# EAGLE library part 503480-1600 (library con-Molex-503480)
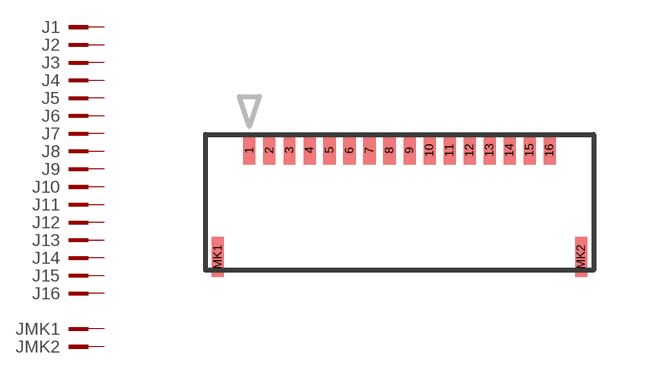
[diagram p0: symbol with the pads of 503480; footprint 503480]

Designator prefix J; gates 1=PIN 2=PIN 3=PIN 4=PIN 5=PIN 6=PIN 7=PIN 8=PIN 9=PIN 10=PIN 11=PIN 12=PIN 13=PIN 14=PIN 15=PIN 16=PIN MK1=PIN MK2=PIN

## 503480-1600 (MF: MOLEX; MPN: 503480-1600)  [503480]
1  1:KL  pas
2  2:KL  pas
3  3:KL  pas
4  4:KL  pas
5  5:KL  pas
6  6:KL  pas
7  7:KL  pas
8  8:KL  pas
9  9:KL  pas
10  10:KL  pas
11  11:KL  pas
12  12:KL  pas
13  13:KL  pas
14  14:KL  pas
15  15:KL  pas
16  16:KL  pas
MK1  MK1:KL  pas
MK2  MK2:KL  pas

## Footprint 503480 (pad centres in mm)
smd 0.3 x 0.7: 1 -3.75,1.4; 2 -3.25,1.4; 3 -2.75,1.4; 4 -2.25,1.4; 5 -1.75,1.4; 6 -1.25,1.4; 7 -0.75,1.4; 8 -0.25,1.4; 9 0.25,1.4; 10 0.75,1.4; 11 1.25,1.4; 12 1.75,1.4; 13 2.25,1.4; 14 2.75,1.4; 15 3.25,1.4; 16 3.75,1.4
smd 0.3 x 1: MK1 -4.54,-1.27; MK2 4.54,-1.27